# Altium schematic symbol library Linear Power Management Supply Monitors.SchLib: 1 symbol
Pins are listed as number, name and electrical type; pins without a type are passive.

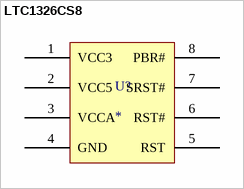
[diagram p0: symbol LTC1326CS8]

## LTC1326CS8
designator U?
Micropower Precision Triple Supply Mon; Digikey Part Number: LTC1326CS8-ND
footprint SOIC127P600-8N (SOIC 8)
pins: 1 VCC3, 2 VCC5, 3 VCCA, 4 GND, 5 RST, 6 RST#, 7 SRST#, 8 PBR#